# Altium schematic symbol library Flash_Memory.SchLib: 1 symbol
Pins are listed as number, name and electrical type; pins without a type are passive.

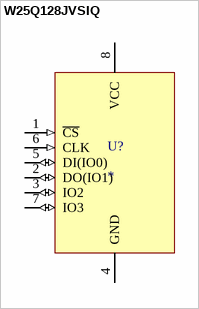
[diagram p0: symbol W25Q128JVSIQ]

## W25Q128JVSIQ
designator U?
NOR Flash spiFlash, 3V, 128M-bit, 4Kb Uniform Sector
footprint W25Q128JVSIQ (NOR Flash spiFlash, 3V, 128M-bit, 4Kb Uniform Sector)
pins: 1 ~{CS} (in), 2 DO(IO1) (io), 3 IO2 (io), 4 GND (power), 5 DI(IO0) (io), 6 CLK (in), 7 IO3 (io), 8 VCC (power)